# Altium footprint library SchottkyDiodes.PcbLib: 2 footprints
Each footprint in its own frame and in the unit in brackets; x right, y up, seen from the top. Pads: shape width x height; smd on the part's side, far side on the other; paste and mask are expansions set on the pad; w line width, h text height; cw(c..) or ccw(c..) is an arc to the next point about the centre after c.
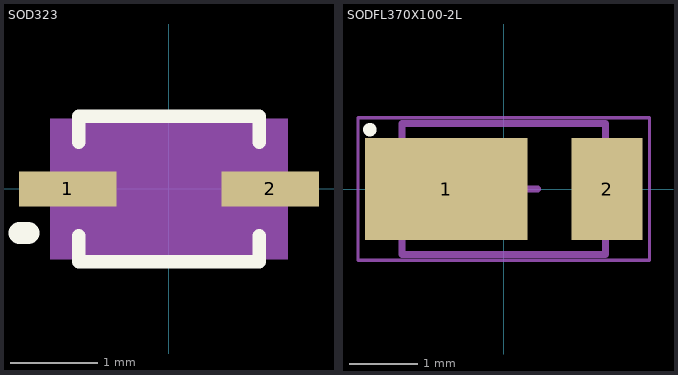
[diagram p0: the footprints below, top view; thin cyan lines are the x and y axes]

## SOD323 [mm]
pads (2):
  rect 1.111x0.401 smd paste+0 mask+0: 1(-1.15,0) 2(1.15,0)
Top Overlay:
  lines w0.152: -1.027,-0.533 -1.027,-0.827 1.027,-0.827 1.027,-0.533 ; -1.027,0.533 -1.027,0.827 1.027,0.827 1.027,0.533
  lines w0.254: -1.7,-0.5 -1.6,-0.5
Mechanical 5:
  region: 1.35,-0.8 -1.35,-0.8 -1.35,0.8 1.35,0.8
Mechanical 13:
  lines w0.025: -0.9,-0.35 -0.55,-0.7 ; -0.9,0.35 -0.55,0.7 ; -1.35,-0.175 -0.9,-0.175 -0.9,0.175 -1.35,0.175 -1.35,-0.175 ; -0.9,-0.7 -0.9,0.7 0.9,0.7 0.9,-0.7 -0.9,-0.7 ; 0.9,-0.175 1.35,-0.175 1.35,0.175 0.9,0.175 0.9,-0.175
3D body: height 0.25, standoff 0, extent 0,0 0.254,0.254
3D body "SOD323.step": height 0.81, standoff 0, extent -1.35,-0.7 1.35,0.7

## SODFL370X100-2L [mm] "SODFL, 2-Leads, Body 1.78x3.70mm, IPC High Density"
height 1
pads (2):
  rect 2.4x1.5 smd mask+0.051: 1(-0.85,0)
  rect 1.05x1.5 smd mask+0.051: 2(1.525,0)
Top Overlay:
  circle w0.1: c-1.975,0.875 r0.05
Assembly Top:
  lines w0.1: -1.5,-0.965 -1.5,0.965 1.5,0.965 1.5,-0.965 -1.5,-0.965
Courtyard Top:
  lines w0.05: -2.15,-1.05 -2.15,1.05 2.15,1.05 2.15,-1.05 -2.15,-1.05
  lines w0.1: -0.5,0 0.5,0 ; 0,-0.5 0,0.5
3D body "SODFL370X100-2L.step": height 1, standoff 0, extent -1.85,-0.965 1.85,0.965